# Altium integrated library XH 2PIN.IntLib: 1 symbol
Pins are listed as number, name and electrical type; pins without a type are passive.

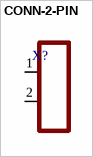
[diagram p0: symbol CONN-2-PIN]

## CONN-2-PIN
designator X?
footprint CONN-PLS-2-2.54mm
pins: 1, 2